# Altium footprint library max30102_50k.PcbLib: 1 footprints
Each footprint in its own frame and in the unit in brackets; x right, y up, seen from the top. Pads: shape width x height; smd on the part's side, far side on the other; paste and mask are expansions set on the pad; w line width, h text height; cw(c..) or ccw(c..) is an arc to the next point about the centre after c.
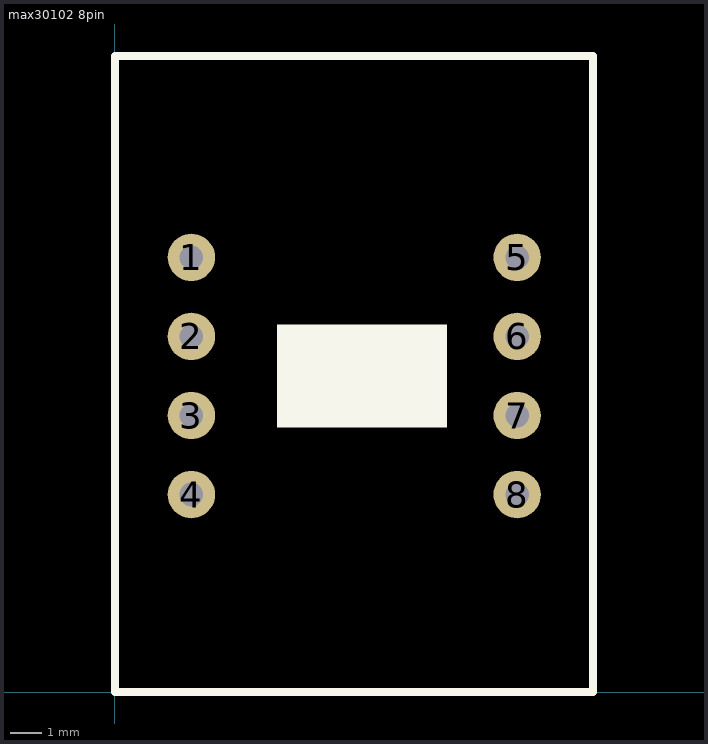
[diagram p0: the footprint, top view; thin cyan lines are the x and y axes]

## max30102 8pin [mil]
pads (8):
  round 60 hole 30: 1(96.73,550) 2(96.73,450) 3(96.73,350) 4(96.73,250) 5(508.94,550) 6(508.94,450) 7(508.94,350) 8(508.94,250)
Top Overlay:
  rectangle: 205,335 420,465
  lines w10: 0,0 605,0 605,805 0,805 0,0
3D body "User Library-MAX30102_MH_ET_LIVE_BOARD_v8.STEP": height 98.43, standoff 0, extent -2.09,1.46 612.09,808.54